# Altium footprint library PcbLib1.PcbLib: 11 footprints
Each footprint in its own frame and in the unit in brackets; x right, y up, seen from the top. Pads: shape width x height; smd on the part's side, far side on the other; paste and mask are expansions set on the pad; w line width, h text height; cw(c..) or ccw(c..) is an arc to the next point about the centre after c.
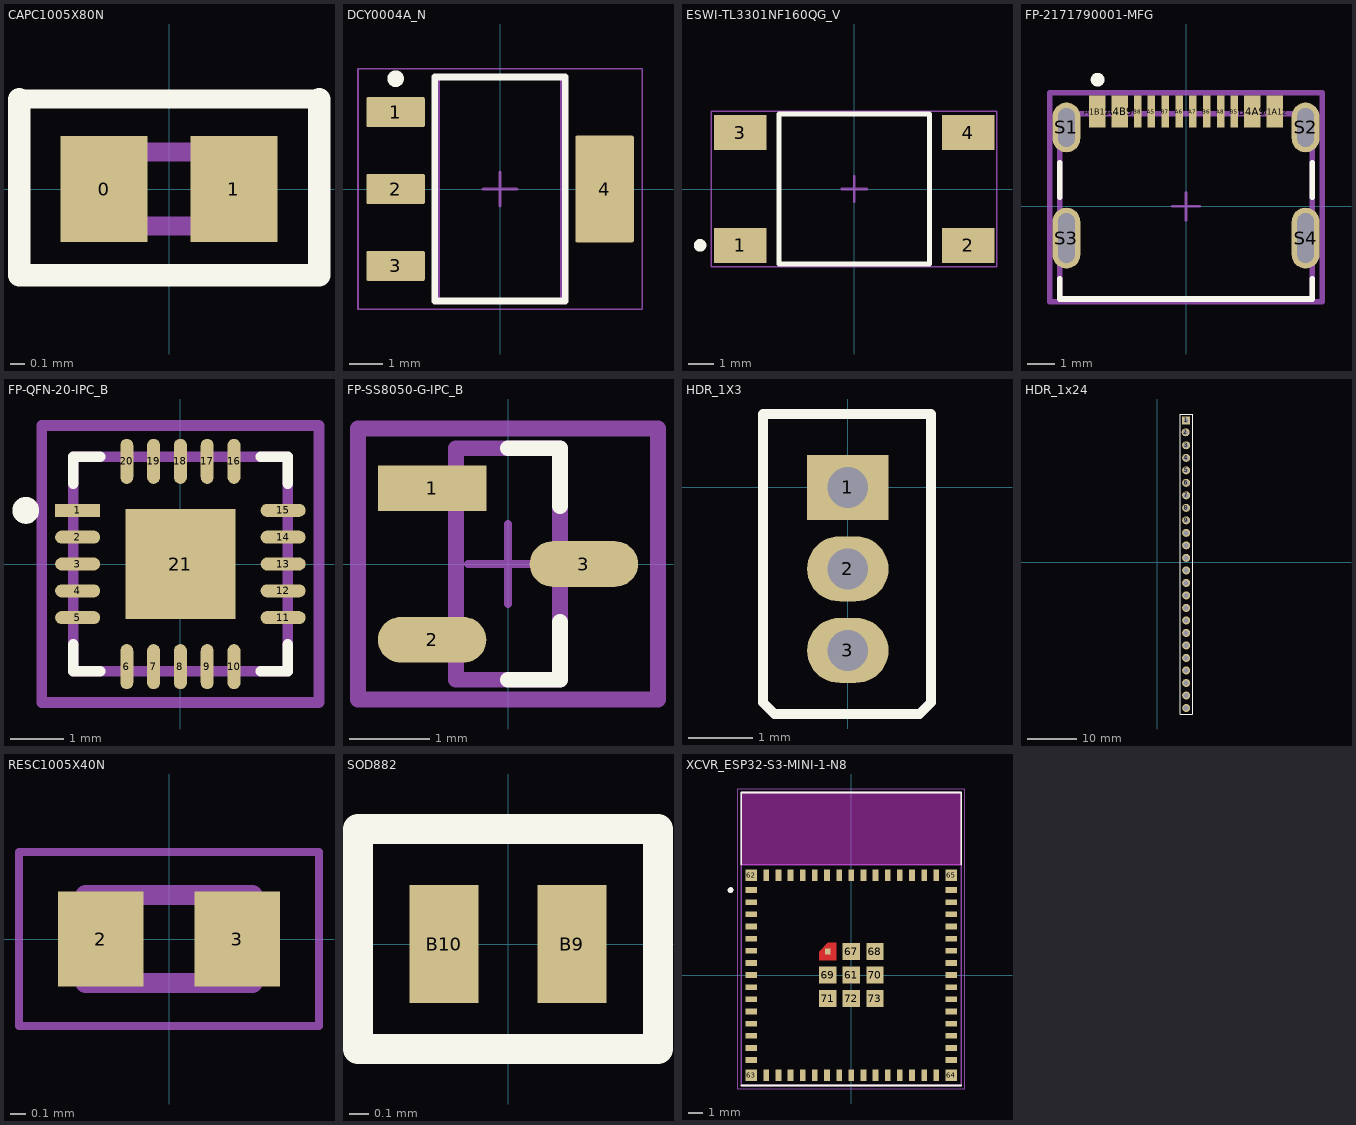
[diagram p0: the footprints below, top view; thin cyan lines are the x and y axes]

## CAPC1005X80N [mm]
pads (2):
  rect 0.589x0.72 smd paste+0 mask+0.077: 0(-0.439,0) 1(0.439,0)
Top Overlay:
  lines w0.127: -1.016,0.61 1.016,0.61
  lines w0.152: -1.016,0.61 -1.016,-0.584 1.016,-0.584 1.016,0.61
Top 3D Body:
  lines w0.127: -0.5,-0.25 0.5,-0.25 0.5,0.25 -0.5,0.25 -0.5,-0.25
Top Courtyard:
  lines w0.05: -1.009,-0.61 1.009,-0.61 1.009,0.61 -1.009,0.61 -1.009,-0.61
3D body "Ceramic_Capacitor_0402_h20mil.step": height 0.52, standoff 0.01, extent -0.457,-0.254 0.559,0.254

## DCY0004A_N [mm] "SOT223, 4-Leads, Body 6.7x3.7mm, Pitch 2.3mm, IPC Medium Density"
height 1.8
pads (4):
  rrect11% 1.75x0.9 smd: 1(-3.125,2.3) 2(-3.125,0) 3(-3.125,-2.3)
  rrect6% 1.75x3.2 smd: 4(3.125,0)
Top Overlay:
  circle w0.25: c-3.125,3.3 r0.125
  lines w0.2: -1.95,-3.35 1.95,-3.35 1.95,3.35 -1.95,3.35 -1.95,-3.35
  text ".Designator" at -1.651,-0.254 h0.8
Top 3D Body:
  lines w0.1: -1.85,-3.35 1.85,-3.35 1.85,3.35 -1.85,3.35 -1.85,-3.35
Top Courtyard:
  lines w0.05: -4.25,-3.6 4.25,-3.6 4.25,3.6 -4.25,3.6 -4.25,-3.6
  lines w0.1: -0.5,0 0.5,0 ; 0,-0.5 0,0.5
3D body "SOT-223.stp": height 1.62, standoff -0.03, extent -3.5,-3.25 3.5,3.25

## ESWI-TL3301NF160QG_V [mm] "SMD, 4-Leads, Body 6x6mm"
height 4.55
pads (4):
  rect 2.1x1.4 smd: 1(-4.55,-2.25) 2(4.55,-2.25) 3(-4.55,2.25) 4(4.55,2.25)
Top Overlay:
  circle w0.25: c-6.15,-2.25 r0.125
  lines w0.2: -3,-3 -3,3 3,3 3,-3 -3,-3
Top 3D Body:
  lines w0.1: -3,-3 3,-3 3,3 -3,3 -3,-3
Top Courtyard:
  lines w0.05: -5.7,-3.1 5.7,-3.1 5.7,3.1 -5.7,3.1 -5.7,-3.1
  lines w0.1: -0.5,0 0.5,0 ; 0,-0.5 0,0.5
3D body: height 4.3, standoff 3.6, extent -1.75,-1.749 1.75,1.75
3D body: height 3.85, standoff 0, extent -3,-3 3,3

## FP-2171790001-MFG [mm]
pads (16):
  rect 0.6x1.15 smd paste+0 mask+0: A1B12(-3.2,3.425) A4B9(-2.4,3.425) B1A12(3.2,3.425) B4A9(2.4,3.425)
  rect 0.275x1.15 smd paste+0 mask+0: A5(-1.25,3.425) A6(-0.25,3.425) A7(0.25,3.425) A8(1.25,3.425) B5(1.75,3.425) B6(0.75,3.425) B7(-0.75,3.425) B8(-1.75,3.425)
  rrect100% 1x1.8 hole 1.4 slot 0.6 at 0 deg paste-2539.97 mask+0: S1(-4.32,2.85) S2(4.32,2.85)
  rrect100% 1x2.2 hole 1.8 slot 0.6 at 0 deg paste-2539.97 mask+0: S3(-4.32,-1.15) S4(4.32,-1.15)
Top Overlay:
  circle w0.25: c-3.195,4.575 r0.125
  lines w0.2: -4.57,-2.625 -4.57,-3.35 4.57,-3.35 4.57,-2.625 ; -4.57,0.325 -4.57,1.575 ; 4.57,0.325 4.57,1.575
Top Assembly:
  lines w0.2: -4.92,-3.45 4.92,-3.45 4.92,4.1 -4.92,4.1 -4.92,-3.45
Top 3D Body:
  lines w0.2: -4.57,-3.35 4.57,-3.35 4.57,3.35 -4.57,3.35 -4.57,-3.35
  text ".Designator" at 0,0.513 h1
Top Courtyard:
  lines w0.2: -4.92,-3.45 4.92,-3.45 4.92,4.1 -4.92,4.1 -4.92,-3.45
Top Component Center:
  lines w0.1: -0.5,0 0.5,0 ; 0,-0.5 0,0.5
3D body "Conn_Molex_2171790001_eec.STEP": height 0.25, standoff 0, extent -4.92,-3.45 4.92,4.1

## FP-QFN-20-IPC_B [mm]
pads (21):
  rect 0.84x0.242 smd paste+0 mask+0: 1(-1.916,1)
  rrect100% 0.84x0.242 smd paste+0 mask+0: 2(-1.916,0.5) 3(-1.916,0) 4(-1.916,-0.5) 5(-1.916,-1) 11(1.916,-1) 12(1.916,-0.5) 13(1.916,0) 14(1.916,0.5) 15(1.916,1)
  rrect100% 0.242x0.84 smd paste+0 mask+0: 6(-1,-1.916) 7(-0.5,-1.916) 8(0,-1.916) 9(0.5,-1.916) 10(1,-1.916) 16(1,1.916) 17(0.5,1.916) 18(0,1.916) 19(-0.5,1.916) 20(-1,1.916)
  rect 2.05x2.05 smd paste-1000 mask+0: 21(0,0)
Top Overlay:
  circle w0.25: c-2.885,1 r0.125
  lines w0.2: -2,-1.5 -2,-2 -1.5,-2 ; -2,1.5 -2,2 -1.5,2 ; 1.5,-2 2,-2 2,-1.5 ; 1.5,2 2,2 2,1.5
Top Paste:
  rectangle: -0.648,-0.648 0.648,0.648
Top Assembly:
  lines w0.2: -2.585,-2.585 -2.585,2.585 2.585,2.585 2.585,-2.585 -2.585,-2.585
  text ".Designator" at 0,0.188 h1
Top 3D Body:
  lines w0.2: -2,-2 -2,2 2,2 2,-2 -2,-2
Top Courtyard:
  lines w0.2: -2.585,-2.585 -2.585,2.585 2.585,2.585 2.585,-2.585 -2.585,-2.585
Top Component Center:
  lines w0.1: -0.5,0 0.5,0 ; 0,-0.5 0,0.5
3D body "IC_FTDI_FT231XQ-R_eec.STEP": height 0.25, standoff 0, extent -2.585,-2.585 2.585,2.585

## FP-SS8050-G-IPC_B [mm]
pads (3):
  rect 1.357x0.572 smd paste+0 mask+0: 1(-0.951,0.95)
  rrect100% 1.357x0.572 smd paste+0 mask+0: 2(-0.951,-0.95) 3(0.951,0)
Top Overlay:
  lines w0.2: 0,-1.45 0.65,-1.45 0.65,-0.725 ; 0,1.45 0.65,1.45 0.65,0.725
Top Assembly:
  lines w0.2: -1.879,-1.7 1.879,-1.7 1.879,1.7 -1.879,1.7 -1.879,-1.7
  text ".Designator" at -0.254,-0.32 h1
Top 3D Body:
  lines w0.2: -0.65,-1.45 0.65,-1.45 0.65,1.45 -0.65,1.45 -0.65,-1.45
Top Courtyard:
  lines w0.2: -1.879,-1.7 1.879,-1.7 1.879,1.7 -1.879,1.7 -1.879,-1.7
Top Component Center:
  lines w0.1: -0.5,0 0.5,0 ; 0,-0.5 0,0.5
3D body "Trans_Comchip_SS8050-G_eec.STEP": height 0.25, standoff 0, extent -1.879,-1.7 1.879,1.7

## HDR_1X3 [mil]
pads (3):
  rect 50x40 hole 25: 1(0,0)
  oval 50x40 hole 25: 2(0,-50) 3(0,-100)
Top Overlay:
  lines w6: -52,-132 -45,-139 -7,-139 44,-139 51,-132 51,45 -52,45 -52,-132
3D body "FTS-103-01-F-S.stp": height 154, standoff -90, extent -42.5,-125 42.5,25

## HDR_1x24 [mil]
pads (24):
  rect 64x64 hole 40: 1(232,1135)
  round 64 hole 40: 2(228,1039) 3(232,935) 4(232,835) 5(232,735) 6(232,635) 7(232,535) 8(232,435) 9(232,335) 10(232,235) 11(232,135) 12(232,35) 13(232,-65) 14(232,-165) 15(232,-265) 16(232,-365) 17(232,-465) 18(232,-565) 19(232,-665) 20(232,-765) 21(232,-865) 22(232,-965) 23(232,-1065) 24(232,-1165)
Top Overlay:
  lines w6: 183,-1213 279,-1213 ; 183,1184 182,1185 279,1185
  lines w8: 183,-1213 183,1184 ; 279,-1213 279,1185
3D body "0022284245.stp": height 390, standoff -115, extent 185,-1212 283,1188

## RESC1005X40N [mm]
pads (2):
  rect 0.54x0.6 smd: 2(-0.432,0) 3(0.432,0)
Top 3D Body:
  lines w0.127: -0.53,-0.28 -0.53,0.28 0.53,0.28 0.53,-0.28 -0.53,-0.28
Top Courtyard:
  lines w0.05: -0.95,-0.55 -0.95,0.55 0.95,0.55 0.95,-0.55 -0.95,-0.55
3D body "RC0402FR-073R9L.step": height 0.4, standoff 0, extent -0.449,-0.25 0.551,0.25

## SOD882 [mm]
pads (2):
  rect 0.35x0.6 smd: B9(0.325,0) B10(-0.325,0)
Top Overlay:
  lines w0.152: -0.762,-0.533 -0.762,0.584 0.762,0.584 0.762,-0.533 -0.762,-0.533
3D body "AQ3045-01ETG.stp": height 0.42, standoff -0.01, extent -0.535,-0.345 0.535,0.33

## XCVR_ESP32-S3-MINI-1-N8 [mm]
height 2.55
pads (73):
  rect 0.8x0.4 smd: 1(-7,5.95) 2(-7,5.1) 3(-7,4.25) 4(-7,3.4) 5(-7,2.55) 6(-7,1.7) 7(-7,0.85) 8(-7,0) 9(-7,-0.85) 10(-7,-1.7) 11(-7,-2.55) 12(-7,-3.4) 13(-7,-4.25) 14(-7,-5.1) 15(-7,-5.95) 31(7,-5.95) 32(7,-5.1) 33(7,-4.25) 34(7,-3.4) 35(7,-2.55) 36(7,-1.7) 37(7,-0.85) 38(7,0) 39(7,0.85) 40(7,1.7) 41(7,2.55) 42(7,3.4) 43(7,4.25) 44(7,5.1) 45(7,5.95)
  rect 0.4x0.8 smd: 16(-5.95,-7) 17(-5.1,-7) 18(-4.25,-7) 19(-3.4,-7) 20(-2.55,-7) 21(-1.7,-7) 22(-0.85,-7) 23(0,-7) 24(0.85,-7) 25(1.7,-7) 26(2.55,-7) 27(3.4,-7) 28(4.25,-7) 29(5.1,-7) 30(5.95,-7) 46(5.95,7) 47(5.1,7) 48(4.25,7) 49(3.4,7) 50(2.55,7) 51(1.7,7) 52(0.85,7) 53(0,7) 54(-0.85,7) 55(-1.7,7) 56(-2.55,7) 57(-3.4,7) 58(-4.25,7) 59(-5.1,7) 60(-5.95,7)
  rect 1.2x1.2 smd: 61(0,0) 67(0,1.65) 68(1.65,1.65) 69(-1.65,0) 70(1.65,0) 71(-1.65,-1.65) 72(0,-1.65) 73(1.65,-1.65)
  rect 0.8x0.8 smd: 62(-7,7) 63(-7,-7) 64(7,-7) 65(7,7)
  rect 0.4x0.4 smd paste-1 mask+0: 66(-1.65,1.65)
Top Layer:
  region: -1.05,1.05 -2.25,1.05 -2.25,1.65 -1.65,2.25 -1.05,2.25
Top Overlay:
  circle w0.2: c-8.45,5.95 r0.1
  lines w0.127: -7.7,-7.725 7.7,-7.725 ; -7.7,7.725 -7.7,12.775 7.7,12.775 7.7,7.725
Top Paste:
  region: -1.05,1.05 -2.25,1.05 -2.25,1.65 -1.65,2.25 -1.05,2.25
Top Solder:
  region: -0.95,0.95 -2.35,0.95 -2.35,1.7 -1.7,2.35 -0.95,2.35
Keep-Out Layer:
  region: 7.7,7.725 -7.7,7.725 -7.7,12.775 7.7,12.775
  region: 7.7,7.725 -7.7,7.725 -7.7,12.775 7.7,12.775
Top 3D Body:
  circle w0.2: c-8.45,5.95 r0.1
  lines w0.127: -7.7,7.725 7.7,7.725 ; -7.7,7.725 -7.7,12.775 7.7,12.775 7.7,7.725 ; -7.7,7.725 -7.7,-7.725 7.7,-7.725 7.7,7.725
Top Courtyard:
  lines w0.05: -7.95,-7.975 7.95,-7.975 7.95,13.025 -7.95,13.025 -7.95,-7.975
3D body "ESP32-S3-MINI-1-N8--3DModel-STEP-510211.STEP": height 2.55, standoff 0, extent -7.725,-7.685 7.675,12.815